# EAGLE library part ADS7950 (library Ian)
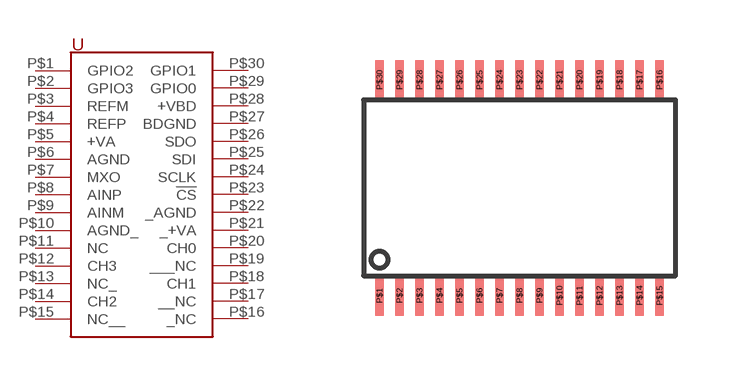
[diagram p1: symbol with the pads of TSSOP-30; footprint TSSOP-30]

Designator prefix -

## ADS7950  [TSSOP-30]
P$1  GPIO2
P$2  GPIO3
P$3  REFM  pwr
P$4  REFP  pwr
P$5  +VA  pwr
P$6  AGND  pwr
P$7  MXO  out
P$8  AINP  in
P$9  AINM  pwr
P$10  AGND_  pwr
P$11  NC  nc
P$12  CH3  in
P$13  NC_  nc
P$14  CH2  in
P$15  NC__  nc
P$16  _NC  nc
P$17  __NC  nc
P$18  CH1  in
P$19  ___NC  nc
P$20  CH0  in
P$21  _+VA  pwr
P$22  _AGND  pwr
P$23  !CS!  in
P$24  SCLK  in
P$25  SDI  in
P$26  SDO  out
P$27  BDGND  pwr
P$28  +VBD  pwr
P$29  GPIO0
P$30  GPIO1

## Footprint TSSOP-30 (pad centres in mm)
smd 0.22 x 1: P$1 0,0; P$2 0.5,0; P$3 1,0; P$4 1.5,0; P$5 2,0; P$6 2.5,0; P$7 3,0; P$8 3.5,0; P$9 4,0; P$10 4.5,0; P$11 5,0; P$12 5.5,0; P$13 6,0; P$14 6.5,0; P$15 7,0; P$16 7,5.4; P$17 6.5,5.4; P$18 6,5.4; P$19 5.5,5.4; P$20 5,5.4; P$21 4.5,5.4; P$22 4,5.4; P$23 3.5,5.4; P$24 3,5.4; P$25 2.5,5.4; P$26 2,5.4; P$27 1.5,5.4; P$28 1,5.4; P$29 0.5,5.4; P$30 0,5.4